# EAGLE library part DPM_V600 (library wheat)
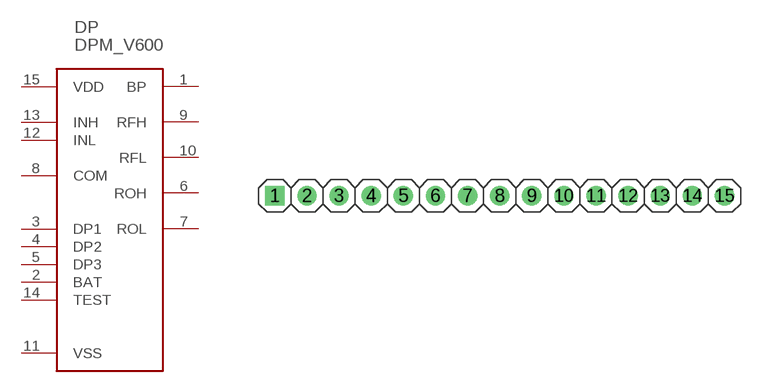
[diagram p275: symbol with the pads of HDR15X1; footprint HDR15X1]

Designator prefix DP

## DPM_V600  [HDR15X1]
1  BP  out
2  BAT  pas
3  DP1  pas
4  DP2  pas
5  DP3  pas
6  ROH  out
7  ROL  out
8  COM  pas
9  RFH  out
10  RFL  out
11  VSS  pas
12  INL  in
13  INH  in
14  TEST  pas
15  VDD  pas

## Footprint HDR15X1 (pad centres in mm)
drill 1.016 square: 1 0,0
drill 1.016: 2 2.54,0; 3 5.08,0; 4 7.62,0; 5 10.16,0; 6 12.7,0; 7 15.24,0; 8 17.78,0; 9 20.32,0; 10 22.86,0; 11 25.4,0; 12 27.94,0; 13 30.48,0; 14 33.02,0; 15 35.56,0